# Altium schematic symbol library SMB.Schlib: 1 symbol
Pins are listed as number, name and electrical type; pins without a type are passive.

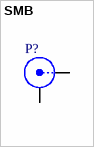
[diagram p0: symbol SMB]

## SMB
designator P?
SMB Straight Connector
pins: 1 X, 2 Y